# Altium footprint library tx24.PcbLib: 1 footprints
Each footprint in its own frame and in the unit in brackets; x right, y up, seen from the top. Pads: shape width x height; smd on the part's side, far side on the other; paste and mask are expansions set on the pad; w line width, h text height; cw(c..) or ccw(c..) is an arc to the next point about the centre after c.
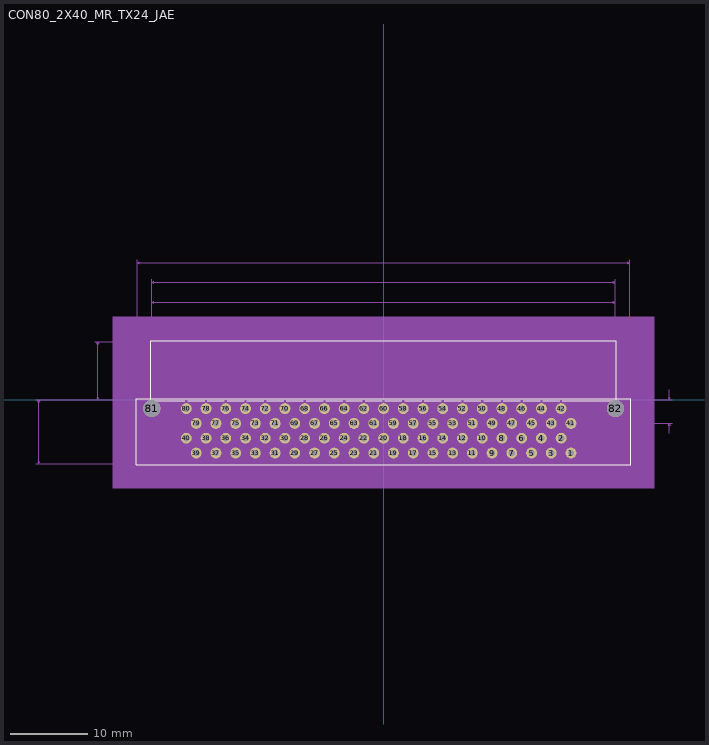
[diagram p0: the footprint, top view; thin cyan lines are the x and y axes]

## CON80_2X40_MR_TX24_JAE [mil]
pads (82):
  round 55 hole 32 mask+0: 1(950,-270) 2(900,-195) 3(850,-270) 4(800,-195) 5(750,-270) 6(700,-195) 7(650,-270) 8(600,-195) 9(550,-270) 10(500,-195) 11(450,-270) 12(400,-195) 13(350,-270) 14(300,-195) 15(250,-270) 16(200,-195) 17(150,-270) 18(100,-195) 19(50,-270) 20(0,-195) 21(-50,-270) 22(-100,-195) 23(-150,-270) 24(-200,-195) 25(-250,-270) 26(-300,-195) 27(-350,-270) 28(-400,-195) 29(-450,-270) 30(-500,-195) 31(-550,-270) 32(-600,-195) 33(-650,-270) 34(-700,-195) 35(-750,-270) 36(-800,-195) 37(-850,-270) 38(-900,-195) 39(-950,-270) 40(-1000,-195) 41(950,-120) 42(900,-45) 43(850,-120) 44(800,-45) 45(750,-120) 46(700,-45) 47(650,-120) 48(600,-45) 49(550,-120) 50(500,-45) 51(450,-120) 52(400,-45) 53(350,-120) 54(300,-45) 55(250,-120) 56(200,-45) 57(150,-120) 58(100,-45) 59(50,-120) 60(0,-45) 61(-50,-120) 62(-100,-45) 63(-150,-120) 64(-200,-45) 65(-250,-120) 66(-300,-45) 67(-350,-120) 68(-400,-45) 69(-450,-120) 70(-500,-45) 71(-550,-120) 72(-600,-45) 73(-650,-120) 74(-700,-45) 75(-750,-120) 76(-800,-45) 77(-850,-120) 78(-900,-45) 79(-950,-120) 80(-1000,-45)
  round 87 hole 87 unplated: 81(-1175,-45) 82(1175,-45)
Top Overlay:
  lines w6: -1006.95,-5 -1180,-5 -1180,300 1180,300 1180,-5 906.95,-5 ; -993.05,-5 -906.95,-5 ; -893.05,-5 -806.95,-5 ; -793.05,-5 -706.95,-5 ; -693.05,-5 -606.95,-5 ; -593.05,-5 -506.95,-5 ; -493.05,-5 -406.95,-5 ; -393.05,-5 -306.95,-5 ; -293.05,-5 -206.95,-5 ; -193.05,-5 -106.95,-5 ; -93.05,-5 -6.95,-5 ; 6.95,-5 93.05,-5 ; 106.95,-5 193.05,-5 ; 206.95,-5 293.05,-5 ; 306.95,-5 393.05,-5 ; 406.95,-5 493.05,-5 ; 506.95,-5 593.05,-5 ; 606.95,-5 693.05,-5 ; 706.95,-5 793.05,-5 ; 806.95,-5 893.05,-5 ; -1253,-329 1253,-329 1253,5 -1253,5 -1253,-329
Mechanical 5:
  region: -1373,420 1373,420 1373,-449 -1373,-449
Mechanical 7:
  lines w1: -1763,-324 -1248,-324 -1248,710 ; -1763,0 -1248,0 ; -1463,0 -1248,0 ; -1463,295 -1248,295 ; -1363,-157 -1175,-157 -1175,610 ; -1363,0 -1248,0 ; -1175,295 -1175,510 ; 0,-270 1363,-270 ; 0,-120 1463,-120 ; 1175,-157 1175,610 ; 1175,295 1175,510 ; 1248,-324 1248,710 ; 1363,0 0,0 1463,0 ; 1448,-170 1448,-120 ; 1448,50 1448,0 ; -1748,-324 -1748,0 ; -1748,-324 -1753,-314 -1743,-314 -1748,-324 ; -1748,0 -1753,-10 -1743,-10 -1748,0 ; -1448,0 -1448,295 ; -1448,0 -1453,10 -1443,10 -1448,0 ; -1448,295 -1453,285 -1443,285 -1448,295 ; -1348,-157 -1348,0 ; -1348,-157 -1353,-147 -1343,-147 -1348,-157 ; -1348,0 -1353,-10 -1343,-10 -1348,0 ; -1248,695 1248,695 ; -1248,695 -1238,700 -1238,690 -1248,695 ; -1175,495 1175,495 ; -1175,495 -1165,500 -1165,490 -1175,495 ; -1175,595 1175,595 ; -1175,595 -1165,600 -1165,590 -1175,595 ; 1175,495 1165,500 1165,490 1175,495 ; 1175,595 1165,600 1165,590 1175,595 ; 1248,695 1238,700 1238,690 1248,695 ; 1348,-270 1348,0 ; 1348,-270 1343,-260 1353,-260 1348,-270 ; 1348,0 1343,-10 1353,-10 1348,0 ; 1448,-120 1443,-130 1453,-130 1448,-120 ; 1448,0 1443,10 1453,10 1448,0
  text "Default Padstyle:EX55Y55D32P" at -350,-484 h50
  text "Alt 1 Padstyle:OX60Y90D30P" at -325,-534 h50
  text "Alt 2 Padstyle:OX90Y60D30P" at -325,-584 h50
  text "2.35in/59.69mm" at -87.5,515 h25
  text "2.35in/59.69mm" at -87.5,615 h25
  text "2.496in/63.398mm" at -100,715 h25
  text "0.157in/3.988mm" at -1555.5,-91 h25
  text "0.324in/8.23mm" at -1943,-174.5 h25
  text "0.295in/7.493mm" at -1655.5,135 h25
  text "-0.27in/-6.858mm" at 1368,-147.5 h25
  text "-0.12in/-3.048mm" at 1468,-72.5 h25
Mechanical 13:
  lines w1: 950,-324 975,-374 1000,-324 ; -1248,-324 1248,-324 1248,0 -1248,0 -1248,-324 ; -1175,0 1175,0 1175,295 -1175,295 -1175,0
Mechanical 15:
  region: 1258,-334 1258,305 -1258,305 -1258,-334
  lines w6: -1258,-334 -1258,305 1258,305 1258,-334 -1258,-334
3D body: height 10, standoff 0, extent 0,0 10,10